# Altium integrated library Edge.IntLib: 1 symbol
Pins are listed as number, name and electrical type; pins without a type are passive.

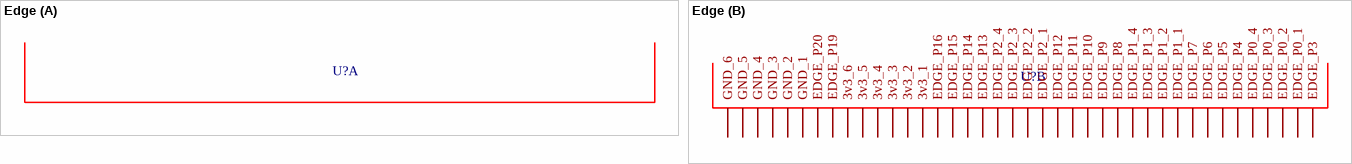
[diagram p0: symbol Edge]

## Edge
designator U?
Microbit edge connector
footprint PCB Edge (Microbit Male Edge connector)
part B pins: 3v3_1, 3v3_2, 3v3_3, 3v3_4, 3v3_5, 3v3_6, GND_1, GND_2, GND_3, GND_4, GND_5, GND_6, P0_1 EDGE_P0_1, P0_2 EDGE_P0_2, P0_3 EDGE_P0_3, P0_4 EDGE_P0_4, P1_1 EDGE_P1_1, P1_2 EDGE_P1_2, P1_3 EDGE_P1_3, P1_4 EDGE_P1_4, P2_1 EDGE_P2_1, P2_2 EDGE_P2_2, P2_3 EDGE_P2_3, P2_4 EDGE_P2_4, P3 EDGE_P3, P4 EDGE_P4, P5 EDGE_P5, P6 EDGE_P6, P7 EDGE_P7, P8 EDGE_P8, P9 EDGE_P9, P10 EDGE_P10, P11 EDGE_P11, P12 EDGE_P12, P13 EDGE_P13, P14 EDGE_P14, P15 EDGE_P15, P16 EDGE_P16, P19 EDGE_P19, P20 EDGE_P20